# Altium footprint library SnapEDApcb.PcbLib: 1 footprints
Each footprint in its own frame and in the unit in brackets; x right, y up, seen from the top. Pads: shape width x height; smd on the part's side, far side on the other; paste and mask are expansions set on the pad; w line width, h text height; cw(c..) or ccw(c..) is an arc to the next point about the centre after c.
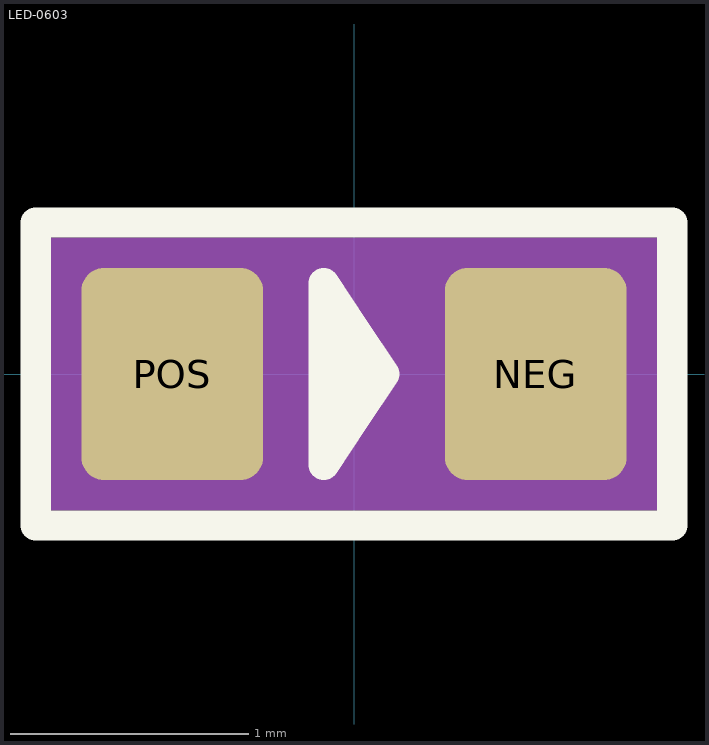
[diagram p0: the footprint, top view; thin cyan lines are the x and y axes]

## LED-0603 [mil]
pads (2):
  rrect25% 30x35 smd: NEG(30,0) POS(-30,0)
Top Overlay:
  lines w5: 0,-7.5 -5,-15 -5,15 0,7.5 ; 0,-7.5 5,0 0,7.5 ; 0,-7.5 0,7.5 ; -52.5,-25 52.5,-25 52.5,25 -52.5,25 -52.5,-25
Mechanical 15:
  region: 50,-22.52 -50.04,-22.52 -50.04,22.5 50,22.5
3D body "0603 Chip SMD LED (1.6x0.8mm).STEP": height 21.65, standoff -0.98, extent -31.5,-15.75 31.5,15.75